# Altium schematic symbol library NSC Audio.SchLib: 691 symbols (part 9 of 18)
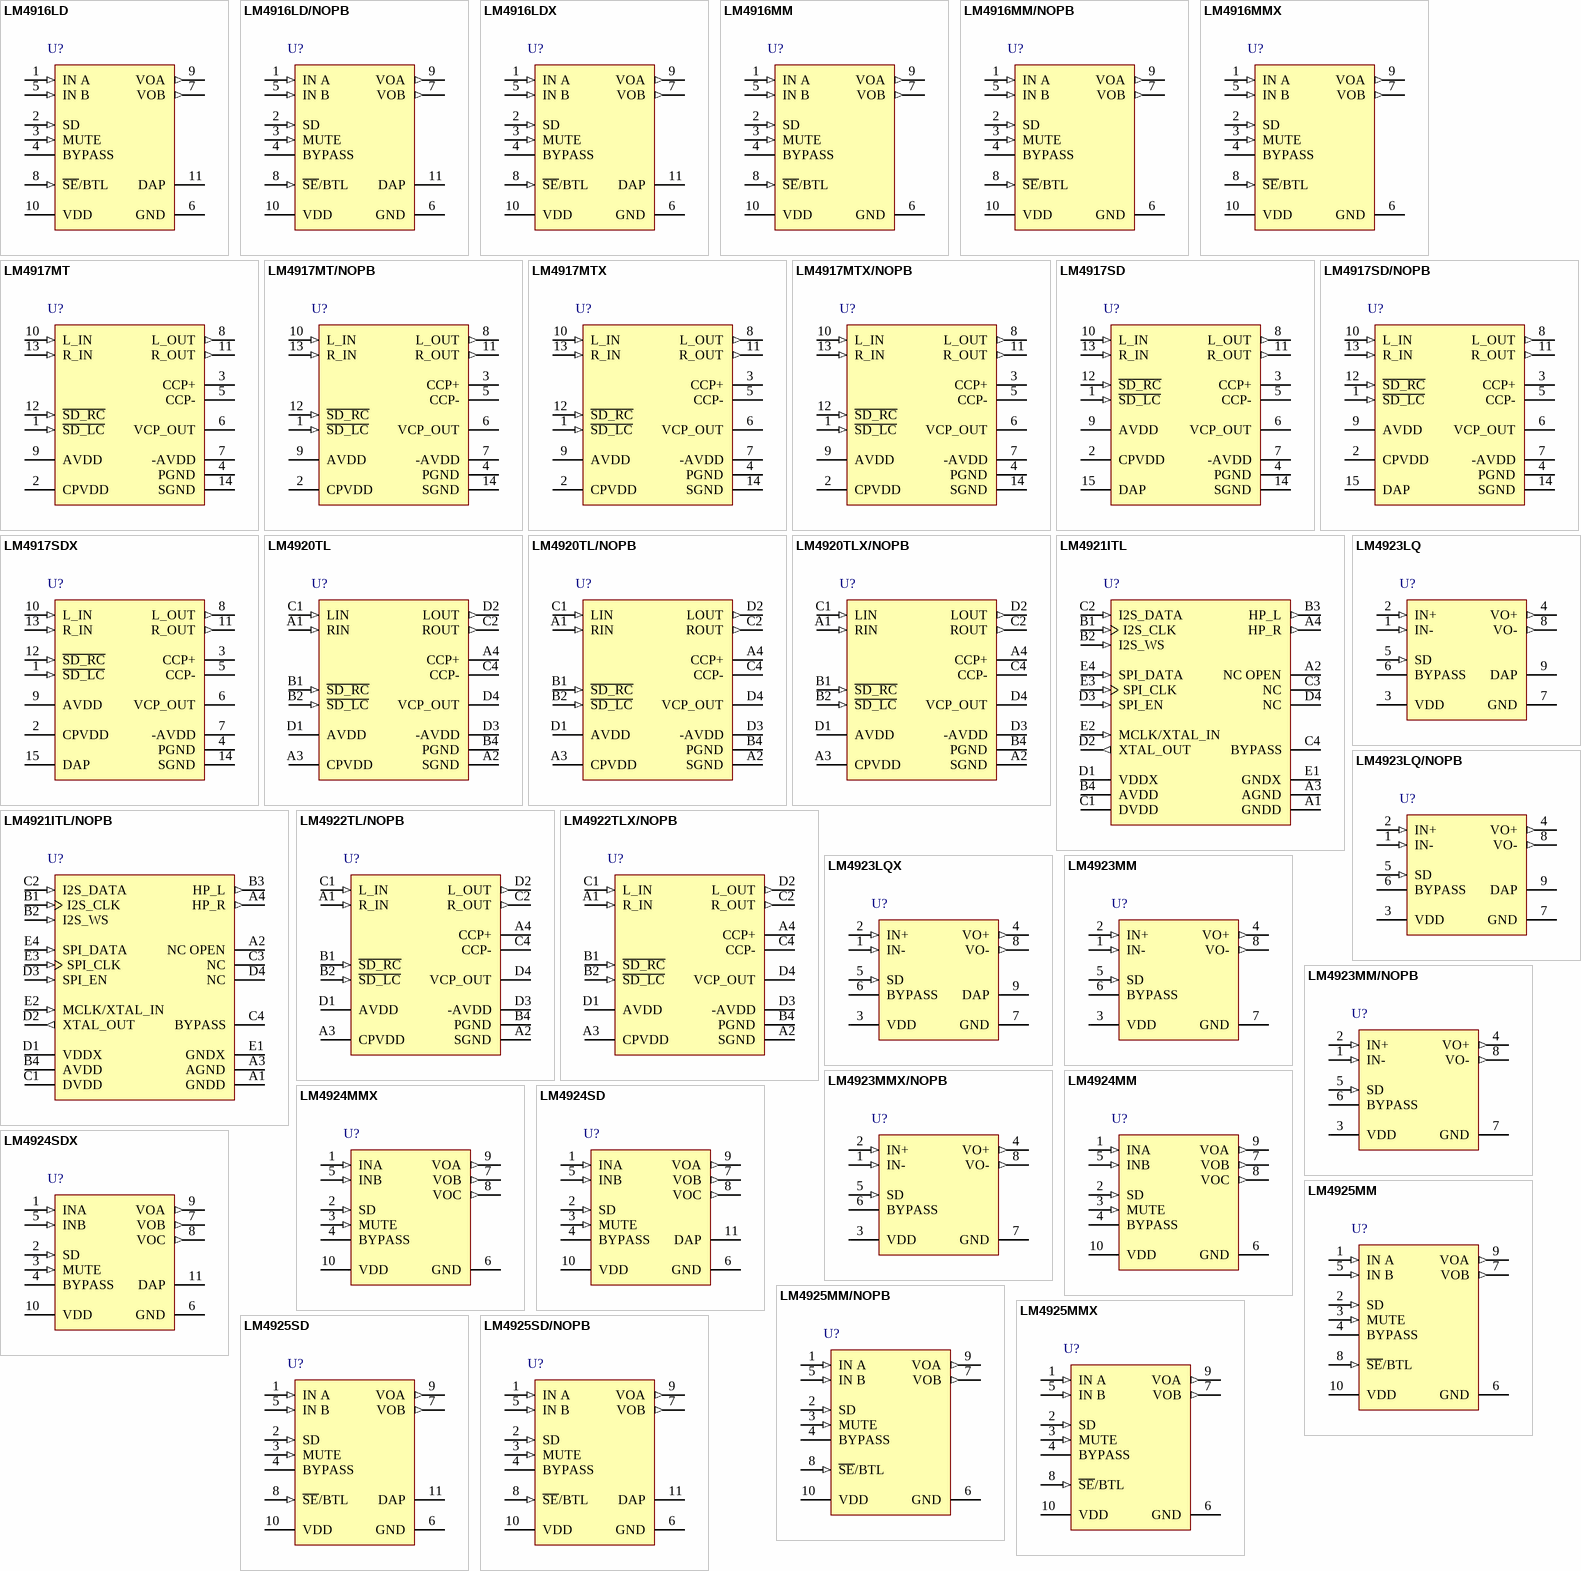
[diagram p35: symbols LM4916LD to LM4925SD/NOPB]

## LM4916LD
designator U?
1.5V, Mono 85mW BTL Output, 14mW Stereo Headphone Audio Amplifier, 11-pin LLP; PartNumber: LM4916LD; Manufacturer: National Semiconductor; PackageTopMarking: ZXYTT*L4916; PowerWise: N; CompType: Audio IC; Published: 4-Dec-2008; DatasheetVersion: Jul-2006; PackageVersion: revB, Jan-2003; PackageReference: LDA10A; Publisher: Altium Limited; PackageDescription: LLP, Plastic, Dual, 3 x 3 x 0.75mm Body, 10 Lead, 0.5mm Pitch; RoHS: N; PinCount: 10; ComponentLink1Description: LM4916 Datasheet; ComponentLink1URL: http://www.national.com/ds/LM/LM4916.pdf; ComponentLink2Description: LM4916 Web Page; ComponentLink2URL: http://www.national.com/pf/LM/LM4916.html; ComponentLink3Description: LDA10A Package Page; ComponentLink3URL: http://www.national.com/packaging/folders/lda10a.html
footprint LDA10A (PSON, 10-Leads, Body 3x3mm, Pitch 0.5mm, NSC Recommended)
pins: 1 IN A (in), 2 SD (in), 3 MUTE (in), 4 BYPASS, 5 IN B (in), 6 GND (power), 7 VOB (out), 8 ~{SE}/BTL (in), 9 VOA (out), 10 VDD (power), 11 DAP (power)

## LM4916LD/NOPB
designator U?
1.5V, Mono 85mW BTL Output, 14mW Stereo Headphone Audio Amplifier, 10-pin LLP, Pb-Free; PartNumber: LM4916LD/NOPB; Manufacturer: National Semiconductor; PackageTopMarking: ZXYTT*L4916; PowerWise: N; CompType: Audio IC; Published: 1-Mar-2010; DatasheetVersion: Jul-2006; PackageVersion: revB, Jan-2003; PackageReference: LDA10A; Publisher: Altium Limited; PackageDescription: LLP, Plastic, Dual, 3 x 3 x 0.75mm Body, 10 Lead, 0.5mm Pitch; Supplier 1: Digi-Key; Supplier Part Number 1: LM4916LDTR-ND; Supplier 2: Digi-Key; Supplier Part Number 2: LM4916LDCT-ND; Supplier 3: Digi-Key; Supplier Part Number 3: LM4916LDDKR-ND; RoHS: Y; PinCount: 10; ComponentLink1Description: LM4916 Datasheet; ComponentLink1URL: http://www.national.com/ds/LM/LM4916.pdf; ComponentLink2Description: LM4916 Web Page; ComponentLink2URL: http://www.national.com/pf/LM/LM4916.html; ComponentLink3Description: LDA10A Package Page; ComponentLink3URL: http://www.national.com/packaging/folders/lda10a.html
footprint LDA10A (PSON, 10-Leads, Body 3x3mm, Pitch 0.5mm, NSC Recommended)
pins: 1 IN A (in), 2 SD (in), 3 MUTE (in), 4 BYPASS, 5 IN B (in), 6 GND (power), 7 VOB (out), 8 ~{SE}/BTL (in), 9 VOA (out), 10 VDD (power), 11 DAP (power)

## LM4916LDX
designator U?
1.5V, Mono 85mW BTL Output, 14mW Stereo Headphone Audio Amplifier, 10-pin LLP; PartNumber: LM4916LDX; Manufacturer: National Semiconductor; PackageTopMarking: ZXYTT*L4916; PowerWise: N; CompType: Audio IC; Published: 1-Mar-2010; DatasheetVersion: Jul-2006; PackageVersion: revB, Jan-2003; PackageReference: LDA10A; Publisher: Altium Limited; PackageDescription: LLP, Plastic, Dual, 3 x 3 x 0.75mm Body, 10 Lead, 0.5mm Pitch; RoHS: N; PinCount: 10; ComponentLink1Description: LM4916 Datasheet; ComponentLink1URL: http://www.national.com/ds/LM/LM4916.pdf; ComponentLink2Description: LM4916 Web Page; ComponentLink2URL: http://www.national.com/pf/LM/LM4916.html; ComponentLink3Description: LDA10A Package Page; ComponentLink3URL: http://www.national.com/packaging/folders/lda10a.html
footprint LDA10A (PSON, 10-Leads, Body 3x3mm, Pitch 0.5mm, NSC Recommended)
pins: 1 IN A (in), 2 SD (in), 3 MUTE (in), 4 BYPASS, 5 IN B (in), 6 GND (power), 7 VOB (out), 8 ~{SE}/BTL (in), 9 VOA (out), 10 VDD (power), 11 DAP (power)

## LM4916MM
designator U?
1.5V, Mono 85mW BTL Output, 14mW Stereo Headphone Audio Amplifier, 10-pin MSOP; PartNumber: LM4916MM; Manufacturer: National Semiconductor; PackageTopMarking: ZXTT*GA9; PowerWise: N; CompType: Audio IC; Published: 4-Dec-2008; DatasheetVersion: Jul-2006; PackageVersion: revB, Jul-2003; PackageReference: MUB10A; Publisher: Altium Limited; PackageDescription: Mini-SO, Molded, .118 x .118 x .034in Body, 10 Lead, .0197in Pitch; RoHS: N; PinCount: 10; Code_JEDEC: MO-187-BA; ComponentLink1Description: LM4916 Datasheet; ComponentLink1URL: http://www.national.com/ds/LM/LM4916.pdf; ComponentLink2Description: LM4916 Web Page; ComponentLink2URL: http://www.national.com/pf/LM/LM4916.html; ComponentLink3Description: MUB10A Package Page; ComponentLink3URL: http://www.national.com/packaging/folders/mub10a.html
footprint MUB10A_N (TSSOP, 10-Leads, Body 3x3mm, Pitch 0.5mm, IPC Medium Density)
footprint MUB10A_L (TSSOP, 10-Leads, Body 3x3mm, Pitch 0.5mm, IPC High Density)
footprint MUB10A_M (TSSOP, 10-Leads, Body 3x3mm, Pitch 0.5mm, IPC Low Density)
pins: 1 IN A (in), 2 SD (in), 3 MUTE (in), 4 BYPASS, 5 IN B (in), 6 GND (power), 7 VOB (out), 8 ~{SE}/BTL (in), 9 VOA (out), 10 VDD (power)

## LM4916MM/NOPB
designator U?
1.5V, Mono 85mW BTL Output, 14mW Stereo Headphone Audio Amplifier, 10-pin Mini SOIC, Pb-Free; PartNumber: LM4916MM/NOPB; Manufacturer: National Semiconductor; PackageTopMarking: ZXTT*GA9; PowerWise: N; CompType: Audio IC; Published: 1-Mar-2010; DatasheetVersion: Jul-2006; PackageVersion: revB, Jul-2003; PackageReference: MUB10A; Publisher: Altium Limited; PackageDescription: Mini-SO, Molded, .118 x .118 x .034in Body, 10 Lead, .0197in Pitch; Supplier 1: Digi-Key; Supplier Part Number 1: LM4916MMTR-ND; Supplier 2: Digi-Key; Supplier Part Number 2: LM4916MMCT-ND; Supplier 3: Digi-Key; Supplier Part Number 3: LM4916MMDKR-ND; RoHS: Y; PinCount: 10; Code_JEDEC: MO-187-BA; ComponentLink1Description: LM4916 Datasheet; ComponentLink1URL: http://www.national.com/ds/LM/LM4916.pdf; ComponentLink2Description: LM4916 Web Page; ComponentLink2URL: http://www.national.com/pf/LM/LM4916.html; ComponentLink3Description: MUB10A Package Page; ComponentLink3URL: http://www.national.com/packaging/folders/mub10a.html
footprint MUB10A_N (TSSOP, 10-Leads, Body 3x3mm, Pitch 0.5mm, IPC Medium Density)
footprint MUB10A_L (TSSOP, 10-Leads, Body 3x3mm, Pitch 0.5mm, IPC High Density)
footprint MUB10A_M (TSSOP, 10-Leads, Body 3x3mm, Pitch 0.5mm, IPC Low Density)
pins: 1 IN A (in), 2 SD (in), 3 MUTE (in), 4 BYPASS, 5 IN B (in), 6 GND (power), 7 VOB (out), 8 ~{SE}/BTL (in), 9 VOA (out), 10 VDD (power)

## LM4916MMX
designator U?
1.5V, Mono 85mW BTL Output, 14mW Stereo Headphone Audio Amplifier, 10-pin Mini SOIC; PartNumber: LM4916MMX; Manufacturer: National Semiconductor; PackageTopMarking: ZXTT*GA9; PowerWise: N; CompType: Audio IC; Published: 1-Mar-2010; DatasheetVersion: Jul-2006; PackageVersion: revB, Jul-2003; PackageReference: MUB10A; Publisher: Altium Limited; PackageDescription: Mini-SO, Molded, .118 x .118 x .034in Body, 10 Lead, .0197in Pitch; RoHS: N; PinCount: 10; Code_JEDEC: MO-187-BA; ComponentLink1Description: LM4916 Datasheet; ComponentLink1URL: http://www.national.com/ds/LM/LM4916.pdf; ComponentLink2Description: LM4916 Web Page; ComponentLink2URL: http://www.national.com/pf/LM/LM4916.html; ComponentLink3Description: MUB10A Package Page; ComponentLink3URL: http://www.national.com/packaging/folders/mub10a.html
footprint MUB10A_N (TSSOP, 10-Leads, Body 3x3mm, Pitch 0.5mm, IPC Medium Density)
footprint MUB10A_L (TSSOP, 10-Leads, Body 3x3mm, Pitch 0.5mm, IPC High Density)
footprint MUB10A_M (TSSOP, 10-Leads, Body 3x3mm, Pitch 0.5mm, IPC Low Density)
pins: 1 IN A (in), 2 SD (in), 3 MUTE (in), 4 BYPASS, 5 IN B (in), 6 GND (power), 7 VOB (out), 8 ~{SE}/BTL (in), 9 VOA (out), 10 VDD (power)

## LM4917MT
designator U?
Ground-Referenced, 95mW Stereo Headphone Amplifier, 14-pin TSSOP; PartNumber: LM4917MT; Manufacturer: National Semiconductor; PackageTopMarking: NSZXYTT*L4917*MT; PowerWise: N; CompType: Audio IC; Published: 4-Dec-2008; DatasheetVersion: Nov-2004; PackageVersion: revD, Jun-2003; PackageReference: MTC14; Publisher: Altium Limited; PackageDescription: Molded TSSOP, JEDEC, 5 x 4.4 x 0.9mm Body, 14 Lead, 0.65mm Pitch; RoHS: N; PinCount: 14; Code_JEDEC: MO-153-AB-1; ComponentLink1Description: LM4917 Datasheet; ComponentLink1URL: http://www.national.com/ds/LM/LM4917.pdf; ComponentLink2Description: LM4917 Web Page; ComponentLink2URL: http://www.national.com/pf/LM/LM4917.html; ComponentLink3Description: MTC14 Package Page; ComponentLink3URL: http://www.national.com/packaging/folders/mtc14.html
footprint MTC14_N (TSOP, 14-Leads, Body 5x4.4mm, Pitch 0.65mm, IPC Medium Density)
footprint MTC14_L (TSOP, 14-Leads, Body 5x4.4mm, Pitch 0.65mm, IPC High Density)
footprint MTC14_M (TSOP, 14-Leads, Body 5x4.4mm, Pitch 0.65mm, IPC Low Density)
pins: 1 ~{SD_LC} (in), 2 CPVDD (power), 3 CCP+, 4 PGND (power), 5 CCP-, 6 VCP_OUT (power), 7 -AVDD (power), 8 L_OUT (out), 9 AVDD (power), 10 L_IN (in), 11 R_OUT (out), 12 ~{SD_RC} (in), 13 R_IN (in), 14 SGND (power)

## LM4917MT/NOPB
designator U?
Ground-Referenced, 95mW Stereo Headphone Amplifier, 14-pin TSSOP, Pb-Free; PartNumber: LM4917MT/NOPB; Manufacturer: National Semiconductor; PackageTopMarking: NSZXYTT*L4917*MT; PowerWise: N; CompType: Audio IC; Published: 1-Mar-2010; DatasheetVersion: Nov-2004; PackageVersion: revD, Jun-2003; PackageReference: MTC14; Publisher: Altium Limited; PackageDescription: Molded TSSOP, JEDEC, 5 x 4.4 x 0.9mm Body, 14 Lead, 0.65mm Pitch; Supplier 1: Digi-Key; Supplier Part Number 1: LM4917MT-ND; RoHS: Y; PinCount: 14; Code_JEDEC: MO-153-AB-1; ComponentLink1Description: LM4917 Datasheet; ComponentLink1URL: http://www.national.com/ds/LM/LM4917.pdf; ComponentLink2Description: LM4917 Web Page; ComponentLink2URL: http://www.national.com/pf/LM/LM4917.html; ComponentLink3Description: MTC14 Package Page; ComponentLink3URL: http://www.national.com/packaging/folders/mtc14.html
footprint MTC14_N (TSOP, 14-Leads, Body 5x4.4mm, Pitch 0.65mm, IPC Medium Density)
footprint MTC14_L (TSOP, 14-Leads, Body 5x4.4mm, Pitch 0.65mm, IPC High Density)
footprint MTC14_M (TSOP, 14-Leads, Body 5x4.4mm, Pitch 0.65mm, IPC Low Density)
pins: 1 ~{SD_LC} (in), 2 CPVDD (power), 3 CCP+, 4 PGND (power), 5 CCP-, 6 VCP_OUT (power), 7 -AVDD (power), 8 L_OUT (out), 9 AVDD (power), 10 L_IN (in), 11 R_OUT (out), 12 ~{SD_RC} (in), 13 R_IN (in), 14 SGND (power)

## LM4917MTX
designator U?
Ground-Referenced, 95mW Stereo Headphone Amplifier, 14-pin TSSOP; PartNumber: LM4917MTX; Manufacturer: National Semiconductor; PackageTopMarking: NSZXYTT*L4917*MT; PowerWise: N; CompType: Audio IC; Published: 1-Mar-2010; DatasheetVersion: Nov-2004; PackageVersion: revD, Jun-2003; PackageReference: MTC14; Publisher: Altium Limited; PackageDescription: Molded TSSOP, JEDEC, 5 x 4.4 x 0.9mm Body, 14 Lead, 0.65mm Pitch; RoHS: N; PinCount: 14; Code_JEDEC: MO-153-AB-1; ComponentLink1Description: LM4917 Datasheet; ComponentLink1URL: http://www.national.com/ds/LM/LM4917.pdf; ComponentLink2Description: LM4917 Web Page; ComponentLink2URL: http://www.national.com/pf/LM/LM4917.html; ComponentLink3Description: MTC14 Package Page; ComponentLink3URL: http://www.national.com/packaging/folders/mtc14.html
footprint MTC14_N (TSOP, 14-Leads, Body 5x4.4mm, Pitch 0.65mm, IPC Medium Density)
footprint MTC14_L (TSOP, 14-Leads, Body 5x4.4mm, Pitch 0.65mm, IPC High Density)
footprint MTC14_M (TSOP, 14-Leads, Body 5x4.4mm, Pitch 0.65mm, IPC Low Density)
pins: 1 ~{SD_LC} (in), 2 CPVDD (power), 3 CCP+, 4 PGND (power), 5 CCP-, 6 VCP_OUT (power), 7 -AVDD (power), 8 L_OUT (out), 9 AVDD (power), 10 L_IN (in), 11 R_OUT (out), 12 ~{SD_RC} (in), 13 R_IN (in), 14 SGND (power)

## LM4917MTX/NOPB
designator U?
Ground-Referenced, 95mW Stereo Headphone Amplifier, 14-pin TSSOP, Pb-Free; PartNumber: LM4917MTX/NOPB; Manufacturer: National Semiconductor; PackageTopMarking: NSZXYTT*L4917*MT; PowerWise: N; CompType: Audio IC; Published: 1-Mar-2010; DatasheetVersion: Nov-2004; PackageVersion: revD, Jun-2003; PackageReference: MTC14; Publisher: Altium Limited; PackageDescription: Molded TSSOP, JEDEC, 5 x 4.4 x 0.9mm Body, 14 Lead, 0.65mm Pitch; Supplier 1: Digi-Key; Supplier Part Number 1: LM4917MTX-ND; RoHS: Y; PinCount: 14; Code_JEDEC: MO-153-AB-1; ComponentLink1Description: LM4917 Datasheet; ComponentLink1URL: http://www.national.com/ds/LM/LM4917.pdf; ComponentLink2Description: LM4917 Web Page; ComponentLink2URL: http://www.national.com/pf/LM/LM4917.html; ComponentLink3Description: MTC14 Package Page; ComponentLink3URL: http://www.national.com/packaging/folders/mtc14.html
footprint MTC14_N (TSOP, 14-Leads, Body 5x4.4mm, Pitch 0.65mm, IPC Medium Density)
footprint MTC14_L (TSOP, 14-Leads, Body 5x4.4mm, Pitch 0.65mm, IPC High Density)
footprint MTC14_M (TSOP, 14-Leads, Body 5x4.4mm, Pitch 0.65mm, IPC Low Density)
pins: 1 ~{SD_LC} (in), 2 CPVDD (power), 3 CCP+, 4 PGND (power), 5 CCP-, 6 VCP_OUT (power), 7 -AVDD (power), 8 L_OUT (out), 9 AVDD (power), 10 L_IN (in), 11 R_OUT (out), 12 ~{SD_RC} (in), 13 R_IN (in), 14 SGND (power)

## LM4917SD
designator U?
Ground-Referenced, 95mW Stereo Headphone Amplifier, 15-pin LLP; PartNumber: LM4917SD; Manufacturer: National Semiconductor; PowerWise: N; CompType: Audio IC; Published: 4-Dec-2008; DatasheetVersion: Nov-2004; PackageVersion: revA, Jun-2003; PackageReference: SDA14A; Publisher: Altium Limited; PackageDescription: LLP, Plastic, Dual, 4 x 3 x 0.8mm Body, 14 Lead, 0.5mm Pitch, No Pullback; RoHS: N; PinCount: 14; ComponentLink1Description: LM4917 Datasheet; ComponentLink1URL: http://www.national.com/ds/LM/LM4917.pdf; ComponentLink2Description: LM4917 Web Page; ComponentLink2URL: http://www.national.com/pf/LM/LM4917.html; ComponentLink3Description: SDA14A Package Page; ComponentLink3URL: http://www.national.com/packaging/folders/sda14a.html
footprint SDA14A (SON, 14-Leads, Body 4x3mm, Pitch 0.5mm, NSC Recommended)
pins: 1 ~{SD_LC} (in), 2 CPVDD (power), 3 CCP+, 4 PGND (power), 5 CCP-, 6 VCP_OUT (power), 7 -AVDD (power), 8 L_OUT (out), 9 AVDD (power), 10 L_IN (in), 11 R_OUT (out), 12 ~{SD_RC} (in), 13 R_IN (in), 14 SGND (power), 15 DAP (power)

## LM4917SD/NOPB
designator U?
Ground-Referenced, 95mW Stereo Headphone Amplifier, 14-pin LLP, Pb-Free; PartNumber: LM4917SD/NOPB; Manufacturer: National Semiconductor; PowerWise: N; CompType: Audio IC; Published: 1-Mar-2010; DatasheetVersion: Nov-2004; PackageVersion: revA, Jun-2003; PackageReference: SDA14A; Publisher: Altium Limited; PackageDescription: LLP, Plastic, Dual, 4 x 3 x 0.8mm Body, 14 Lead, 0.5mm Pitch, No Pullback; Supplier 1: Digi-Key; Supplier Part Number 1: LM4917SDTR-ND; Supplier 2: Digi-Key; Supplier Part Number 2: LM4917SDCT-ND; Supplier 3: Digi-Key; Supplier Part Number 3: LM4917SDDKR-ND; RoHS: Y; PinCount: 14; ComponentLink1Description: LM4917 Datasheet; ComponentLink1URL: http://www.national.com/ds/LM/LM4917.pdf; ComponentLink2Description: LM4917 Web Page; ComponentLink2URL: http://www.national.com/pf/LM/LM4917.html; ComponentLink3Description: SDA14A Package Page; ComponentLink3URL: http://www.national.com/packaging/folders/sda14a.html
footprint SDA14A (SON, 14-Leads, Body 4x3mm, Pitch 0.5mm, NSC Recommended)
pins: 1 ~{SD_LC} (in), 2 CPVDD (power), 3 CCP+, 4 PGND (power), 5 CCP-, 6 VCP_OUT (power), 7 -AVDD (power), 8 L_OUT (out), 9 AVDD (power), 10 L_IN (in), 11 R_OUT (out), 12 ~{SD_RC} (in), 13 R_IN (in), 14 SGND (power), 15 DAP (power)

## LM4917SDX
designator U?
Ground-Referenced, 95mW Stereo Headphone Amplifier, 14-pin LLP; PartNumber: LM4917SDX; Manufacturer: National Semiconductor; PowerWise: N; CompType: Audio IC; Published: 1-Mar-2010; DatasheetVersion: Nov-2004; PackageVersion: revA, Jun-2003; PackageReference: SDA14A; Publisher: Altium Limited; PackageDescription: LLP, Plastic, Dual, 4 x 3 x 0.8mm Body, 14 Lead, 0.5mm Pitch, No Pullback; RoHS: N; PinCount: 14; ComponentLink1Description: LM4917 Datasheet; ComponentLink1URL: http://www.national.com/ds/LM/LM4917.pdf; ComponentLink2Description: LM4917 Web Page; ComponentLink2URL: http://www.national.com/pf/LM/LM4917.html; ComponentLink3Description: SDA14A Package Page; ComponentLink3URL: http://www.national.com/packaging/folders/sda14a.html
footprint SDA14A (SON, 14-Leads, Body 4x3mm, Pitch 0.5mm, NSC Recommended)
pins: 1 ~{SD_LC} (in), 2 CPVDD (power), 3 CCP+, 4 PGND (power), 5 CCP-, 6 VCP_OUT (power), 7 -AVDD (power), 8 L_OUT (out), 9 AVDD (power), 10 L_IN (in), 11 R_OUT (out), 12 ~{SD_RC} (in), 13 R_IN (in), 14 SGND (power), 15 DAP (power)

## LM4920TL
designator U?
Ground-Referenced, Ultra Low Noise, Fixed Gain, 80mW Stereo Headphone Amplifier, 14-pin Micro SMD; PartNumber: LM4920TL; Manufacturer: National Semiconductor; PackageTopMarking: XYTT*I GH4; PowerWise: N; CompType: Audio IC; Published: 4-Dec-2008; DatasheetVersion: Oct-2006; PackageVersion: revB, Sep-2004; PackageReference: TLE1411A; Publisher: Altium Limited; PackageDescription: Thin Micro SMD, Depopulated, 14 Bump (Large), 0.5mm Pitch; RoHS: Y; PinCount: 14; Code_JEDEC: MO-211-DF; ComponentLink1Description: LM4920 Datasheet; ComponentLink1URL: http://www.national.com/ds/LM/LM4920.pdf; ComponentLink2Description: LM4920 Web Page; ComponentLink2URL: http://www.national.com/pf/LM/LM4920.html; ComponentLink3Description: TLE1411A Package Page; ComponentLink3URL: http://www.national.com/packaging/folders/tle1411a.html
footprint TLE1411A (Micro SMD, 14-Leads, Body 1.97x1.97mm, Pitch 0.5mm, NSC Recommended)
pins: A1 RIN (in), A2 SGND (power), A3 CPVDD (power), A4 CCP+, B1 ~{SD_RC} (in), B2 ~{SD_LC} (in), B4 PGND (power), C1 LIN (in), C2 ROUT (out), C4 CCP-, D1 AVDD (power), D2 LOUT (out), D3 -AVDD (power), D4 VCP_OUT (power)

## LM4920TL/NOPB
designator U?
Ground-Referenced, Ultra Low Noise, Fixed Gain, 80mW Stereo Headphone Amplifier, 14-pin Micro SMD, Pb-Free; PartNumber: LM4920TL/NOPB; Manufacturer: National Semiconductor; PackageTopMarking: XYTT*I GH4; PowerWise: N; CompType: Audio IC; Published: 1-Mar-2010; DatasheetVersion: Oct-2006; PackageVersion: revB, Sep-2004; PackageReference: TLE1411A; Publisher: Altium Limited; PackageDescription: Thin Micro SMD, Depopulated, 14 Bump (Large), 0.5mm Pitch; Supplier 1: Digi-Key; Supplier Part Number 1: LM4920TLTR-ND; Supplier 2: Digi-Key; Supplier Part Number 2: LM4920TLCT-ND; Supplier 3: Digi-Key; Supplier Part Number 3: LM4920TLDKR-ND; RoHS: Y; PinCount: 14; Code_JEDEC: MO-211-DF; ComponentLink1Description: LM4920 Datasheet; ComponentLink1URL: http://www.national.com/ds/LM/LM4920.pdf; ComponentLink2Description: LM4920 Web Page; ComponentLink2URL: http://www.national.com/pf/LM/LM4920.html; ComponentLink3Description: TLE1411A Package Page; ComponentLink3URL: http://www.national.com/packaging/folders/tle1411a.html
footprint TLE1411A (Micro SMD, 14-Leads, Body 1.97x1.97mm, Pitch 0.5mm, NSC Recommended)
pins: A1 RIN (in), A2 SGND (power), A3 CPVDD (power), A4 CCP+, B1 ~{SD_RC} (in), B2 ~{SD_LC} (in), B4 PGND (power), C1 LIN (in), C2 ROUT (out), C4 CCP-, D1 AVDD (power), D2 LOUT (out), D3 -AVDD (power), D4 VCP_OUT (power)

## LM4920TLX/NOPB
designator U?
Ground-Referenced, Ultra Low Noise, Fixed Gain, 80mW Stereo Headphone Amplifier, 14-pin Micro SMD, Pb-Free; PartNumber: LM4920TLX/NOPB; Manufacturer: National Semiconductor; PackageTopMarking: XYTT*I GH4; PowerWise: N; CompType: Audio IC; Published: 1-Mar-2010; DatasheetVersion: Oct-2006; PackageVersion: revB, Sep-2004; PackageReference: TLE1411A; Publisher: Altium Limited; PackageDescription: Thin Micro SMD, Depopulated, 14 Bump (Large), 0.5mm Pitch; Supplier 1: Digi-Key; Supplier Part Number 1: LM4920TLX-ND; RoHS: Y; PinCount: 14; Code_JEDEC: MO-211-DF; ComponentLink1Description: LM4920 Datasheet; ComponentLink1URL: http://www.national.com/ds/LM/LM4920.pdf; ComponentLink2Description: LM4920 Web Page; ComponentLink2URL: http://www.national.com/pf/LM/LM4920.html; ComponentLink3Description: TLE1411A Package Page; ComponentLink3URL: http://www.national.com/packaging/folders/tle1411a.html
footprint TLE1411A (Micro SMD, 14-Leads, Body 1.97x1.97mm, Pitch 0.5mm, NSC Recommended)
pins: A1 RIN (in), A2 SGND (power), A3 CPVDD (power), A4 CCP+, B1 ~{SD_RC} (in), B2 ~{SD_LC} (in), B4 PGND (power), C1 LIN (in), C2 ROUT (out), C4 CCP-, D1 AVDD (power), D2 LOUT (out), D3 -AVDD (power), D4 VCP_OUT (power)

## LM4921ITL
designator U?
Low Voltage IS 16-Bit Stereo DAC with Stereo Headphone Power Amplifiers and Volume Control, 20-pin Micro SMD; PartNumber: LM4921ITL; Manufacturer: National Semiconductor; PackageTopMarking: XYVG*I B9; PowerWise: N; CompType: Audio IC; Published: 4-Dec-2008; DatasheetVersion: Nov-2004; PackageVersion: revC, Jan-2004; PackageReference: TLA20JKA; Publisher: Altium Limited; PackageDescription: Thin Micro SMD, 20 Bump (Large), 0.5mm Pitch; Supplier 1: Farnell; Supplier Part Number 1: 8181195; RoHS: Y; PinCount: 20; Code_JEDEC: MO-211-DG; ComponentLink1Description: LM4921 Datasheet; ComponentLink1URL: http://www.national.com/ds/LM/LM4921.pdf; ComponentLink2Description: LM4921 Web Page; ComponentLink2URL: http://www.national.com/pf/LM/LM4921.html; ComponentLink3Description: TLA20JKA Package Page; ComponentLink3URL: http://www.national.com/packaging/folders/tla20jka.html
footprint TLA20JKA (Micro SMD, 20-Leads, Body 2.72x2.2mm, Pitch 0.5mm, NSC Recommended)
pins: A1 GNDD (power), A2 NC OPEN "Must let float", A3 AGND (power), A4 HP_R (out), B1 I2S_CLK (in), B2 I2S_WS (in), B3 HP_L (out), B4 AVDD (power), C1 DVDD (power), C2 I2S_DATA (in), C3 NC, C4 BYPASS, D1 VDDX (power), D2 XTAL_OUT (out), D3 SPI_EN (in), D4 NC, E1 GNDX (power), E2 MCLK/XTAL_IN (in), E3 SPI_CLK (in), E4 SPI_DATA (in)

## LM4921ITL/NOPB
designator U?
Low Voltage IS 16-Bit Stereo DAC with Stereo Headphone Power Amplifiers and Volume Control, 20-pin Micro SMD, Pb-Free; PartNumber: LM4921ITL/NOPB; Manufacturer: National Semiconductor; PackageTopMarking: XYVG*I B9; PowerWise: N; CompType: Audio IC; Published: 1-Mar-2010; DatasheetVersion: Nov-2004; PackageVersion: revC, Jan-2004; PackageReference: TLA20JKA; Publisher: Altium Limited; PackageDescription: Thin Micro SMD, 20 Bump (Large), 0.5mm Pitch; Supplier 1: Digi-Key; Supplier Part Number 1: LM4921ITLTR-ND; Supplier 2: Digi-Key; Supplier Part Number 2: LM4921ITLCT-ND; Supplier 3: Digi-Key; Supplier Part Number 3: LM4921ITLDKR-ND; RoHS: Y; PinCount: 20; Code_JEDEC: MO-211-DG; ComponentLink1Description: LM4921 Datasheet; ComponentLink1URL: http://www.national.com/ds/LM/LM4921.pdf; ComponentLink2Description: LM4921 Web Page; ComponentLink2URL: http://www.national.com/pf/LM/LM4921.html; ComponentLink3Description: TLA20JKA Package Page; ComponentLink3URL: http://www.national.com/packaging/folders/tla20jka.html
footprint TLA20JKA (Micro SMD, 20-Leads, Body 2.72x2.2mm, Pitch 0.5mm, NSC Recommended)
pins: A1 GNDD (power), A2 NC OPEN "Must let float", A3 AGND (power), A4 HP_R (out), B1 I2S_CLK (in), B2 I2S_WS (in), B3 HP_L (out), B4 AVDD (power), C1 DVDD (power), C2 I2S_DATA (in), C3 NC, C4 BYPASS, D1 VDDX (power), D2 XTAL_OUT (out), D3 SPI_EN (in), D4 NC, E1 GNDX (power), E2 MCLK/XTAL_IN (in), E3 SPI_CLK (in), E4 SPI_DATA (in)

## LM4922TL/NOPB
designator U?
Ground-Referenced, Ultra Low Noise, Fixed Gain, 80mW Stereo Headphone Amplifier, 14 pin MICRO SMD; PartNumber: LM4922TL/NOPB; Manufacturer: National Semiconductor; PackageTopMarking: XYTT*I GG1; PowerWise: N; CompType: Audio IC; Published: 16-Nov-2010; DatasheetVersion: Oct-2006; PackageVersion: revB, Sep-2004; PackageReference: TLE1411A; Publisher: Altium Limited; PackageDescription: Thin Micro SMD, Depopulated, 14 Bump (Large), 0.5mm Pitch; RoHS: Y; PinCount: 14; Code_JEDEC: MO-211-DF; ComponentLink1Description: LM4922 Datasheet; ComponentLink1URL: http://www.national.com/ds/LM/LM4922.pdf; ComponentLink2Description: LM4922 Web Page; ComponentLink2URL: http://www.national.com/pf/LM/LM4922.html; ComponentLink3Description: TLE1411A Package Page; ComponentLink3URL: http://www.national.com/packaging/folders/tle1411a.html
footprint TLE1411A (Micro SMD, 14-Leads, Body 1.97x1.97mm, Pitch 0.5mm, NSC Recommended)
pins: A1 R_IN (in), A2 SGND (power), A3 CPVDD (power), A4 CCP+, B1 ~{SD_RC} (in), B2 ~{SD_LC} (in), B4 PGND (power), C1 L_IN (in), C2 R_OUT (out), C4 CCP-, D1 AVDD (power), D2 L_OUT (out), D3 -AVDD (power), D4 VCP_OUT (power)

## LM4922TLX/NOPB
designator U?
Ground-Referenced, Ultra Low Noise, Fixed Gain, 80mW Stereo Headphone Amplifier, 14 pin MICRO SMD; PartNumber: LM4922TLX/NOPB; Manufacturer: National Semiconductor; PackageTopMarking: XYTT*I GG1; PowerWise: N; CompType: Audio IC; Published: 16-Nov-2010; DatasheetVersion: Oct-2006; PackageVersion: revB, Sep-2004; PackageReference: TLE1411A; Publisher: Altium Limited; PackageDescription: Thin Micro SMD, Depopulated, 14 Bump (Large), 0.5mm Pitch; RoHS: Y; PinCount: 14; Code_JEDEC: MO-211-DF; ComponentLink1Description: LM4922 Datasheet; ComponentLink1URL: http://www.national.com/ds/LM/LM4922.pdf; ComponentLink2Description: LM4922 Web Page; ComponentLink2URL: http://www.national.com/pf/LM/LM4922.html; ComponentLink3Description: TLE1411A Package Page; ComponentLink3URL: http://www.national.com/packaging/folders/tle1411a.html
footprint TLE1411A (Micro SMD, 14-Leads, Body 1.97x1.97mm, Pitch 0.5mm, NSC Recommended)
pins: A1 R_IN (in), A2 SGND (power), A3 CPVDD (power), A4 CCP+, B1 ~{SD_RC} (in), B2 ~{SD_LC} (in), B4 PGND (power), C1 L_IN (in), C2 R_OUT (out), C4 CCP-, D1 AVDD (power), D2 L_OUT (out), D3 -AVDD (power), D4 VCP_OUT (power)

## LM4923LQ
designator U?
1.1W Fully Differential Audio Power Amplifier With Shutdown Select, 9-pin LLP; PartNumber: LM4923LQ; Manufacturer: National Semiconductor; PackageTopMarking: XTT*GB2; PowerWise: N; CompType: Audio IC; Published: 4-Dec-2008; DatasheetVersion: Feb-2009; PackageVersion: revB, Nov-2002; PackageReference: LQB08A; Publisher: Altium Limited; PackageDescription: LLP, Plastic, Quad, 2 x 2 x 0.75mm Body, 8 Lead, 0.65mm Pitch; Supplier 1: Farnell; Supplier Part Number 1: 1798329; RoHS: N; PinCount: 8; ComponentLink1Description: LM4923 Datasheet; ComponentLink1URL: http://www.national.com/ds/LM/LM4923.pdf; ComponentLink2Description: LM4923 Web Page; ComponentLink2URL: http://www.national.com/pf/LM/LM4923.html; ComponentLink3Description: LQB08A Package Page; ComponentLink3URL: http://www.national.com/packaging/folders/lqb08a.html
footprint LQB08A (PQFN, 8-Leads, Body 2x2mm, Pitch 0.65mm, NSC Recommended)
pins: 1 IN- (in), 2 IN+ (in), 3 VDD (power), 4 VO+ (out), 5 SD (in), 6 BYPASS, 7 GND (power), 8 VO- (out), 9 DAP (power)

## LM4923LQ/NOPB
designator U?
1.1W Fully Differential Audio Power Amplifier With Shutdown Select, 8-pin LLP, Pb-Free; PartNumber: LM4923LQ/NOPB; Manufacturer: National Semiconductor; PackageTopMarking: XTT*GB2; PowerWise: N; CompType: Audio IC; Published: 1-Mar-2010; DatasheetVersion: Feb-2009; PackageVersion: revB, Nov-2002; PackageReference: LQB08A; Publisher: Altium Limited; PackageDescription: LLP, Plastic, Quad, 2 x 2 x 0.75mm Body, 8 Lead, 0.65mm Pitch; Supplier 1: Digi-Key; Supplier Part Number 1: LM4923LQTR-ND; Supplier 2: Digi-Key; Supplier Part Number 2: LM4923LQCT-ND; Supplier 3: Digi-Key; Supplier Part Number 3: LM4923LQDKR-ND; RoHS: Y; PinCount: 8; ComponentLink1Description: LM4923 Datasheet; ComponentLink1URL: http://www.national.com/ds/LM/LM4923.pdf; ComponentLink2Description: LM4923 Web Page; ComponentLink2URL: http://www.national.com/pf/LM/LM4923.html; ComponentLink3Description: LQB08A Package Page; ComponentLink3URL: http://www.national.com/packaging/folders/lqb08a.html
footprint LQB08A (PQFN, 8-Leads, Body 2x2mm, Pitch 0.65mm, NSC Recommended)
pins: 1 IN- (in), 2 IN+ (in), 3 VDD (power), 4 VO+ (out), 5 SD (in), 6 BYPASS, 7 GND (power), 8 VO- (out), 9 DAP (power)

## LM4923LQX
designator U?
1.1W Fully Differential Audio Power Amplifier With Shutdown Select, 8-pin LLP; PartNumber: LM4923LQX; Manufacturer: National Semiconductor; PackageTopMarking: XTT*GB2; PowerWise: N; CompType: Audio IC; Published: 1-Mar-2010; DatasheetVersion: Feb-2009; PackageVersion: revB, Nov-2002; PackageReference: LQB08A; Publisher: Altium Limited; PackageDescription: LLP, Plastic, Quad, 2 x 2 x 0.75mm Body, 8 Lead, 0.65mm Pitch; RoHS: N; PinCount: 8; ComponentLink1Description: LM4923 Datasheet; ComponentLink1URL: http://www.national.com/ds/LM/LM4923.pdf; ComponentLink2Description: LM4923 Web Page; ComponentLink2URL: http://www.national.com/pf/LM/LM4923.html; ComponentLink3Description: LQB08A Package Page; ComponentLink3URL: http://www.national.com/packaging/folders/lqb08a.html
footprint LQB08A (PQFN, 8-Leads, Body 2x2mm, Pitch 0.65mm, NSC Recommended)
pins: 1 IN- (in), 2 IN+ (in), 3 VDD (power), 4 VO+ (out), 5 SD (in), 6 BYPASS, 7 GND (power), 8 VO- (out), 9 DAP (power)

## LM4923MM
designator U?
1.1W Fully Differential Audio Power Amplifier With Shutdown Select, 8-pin Mini SOIC; PartNumber: LM4923MM; Manufacturer: National Semiconductor; PackageTopMarking: ZXTT*GC8; PowerWise: N; CompType: Audio IC; Published: 4-Dec-2008; DatasheetVersion: Feb-2009; PackageVersion: revF, Apr-2008; PackageReference: MUA08A; Publisher: Altium Limited; PackageDescription: MINI SOIC, .118 x .118 x .034in, 8 Lead, .0256in Pitch; RoHS: Y; PinCount: 8; Code_JEDEC: MO-187-AA; ComponentLink1Description: LM4923 Datasheet; ComponentLink1URL: http://www.national.com/ds/LM/LM4923.pdf; ComponentLink2Description: LM4923 Web Page; ComponentLink2URL: http://www.national.com/pf/LM/LM4923.html; ComponentLink3Description: MUA08A Package Page; ComponentLink3URL: http://www.national.com/packaging/folders/mua08a.html
footprint MUA08A_N (TSOP, 8-Leads, Body 3x3mm, Pitch 0.65mm, IPC Medium Density)
footprint MUA08A_L (TSOP, 8-Leads, Body 3x3mm, Pitch 0.65mm, IPC High Density)
footprint MUA08A_M (TSOP, 8-Leads, Body 3x3mm, Pitch 0.65mm, IPC Low Density)
pins: 1 IN- (in), 2 IN+ (in), 3 VDD (power), 4 VO+ (out), 5 SD (in), 6 BYPASS, 7 GND (power), 8 VO- (out)

## LM4923MM/NOPB
designator U?
1.1W Fully Differential Audio Power Amplifier With Shutdown Select, 8-pin Mini SOIC, Pb-Free; PartNumber: LM4923MM/NOPB; Manufacturer: National Semiconductor; PackageTopMarking: ZXTT*GC8; PowerWise: N; CompType: Audio IC; Published: 1-Mar-2010; DatasheetVersion: Feb-2009; PackageVersion: revF, Apr-2008; PackageReference: MUA08A; Publisher: Altium Limited; PackageDescription: MINI SOIC, .118 x .118 x .034in, 8 Lead, .0256in Pitch; Supplier 1: Digi-Key; Supplier Part Number 1: LM4923MMTR-ND; Supplier 2: Digi-Key; Supplier Part Number 2: LM4923MMCT-ND; Supplier 3: Digi-Key; Supplier Part Number 3: LM4923MMDKR-ND; RoHS: Y; PinCount: 8; Code_JEDEC: MO-187-AA; ComponentLink1Description: LM4923 Datasheet; ComponentLink1URL: http://www.national.com/ds/LM/LM4923.pdf; ComponentLink2Description: LM4923 Web Page; ComponentLink2URL: http://www.national.com/pf/LM/LM4923.html; ComponentLink3Description: MUA08A Package Page; ComponentLink3URL: http://www.national.com/packaging/folders/mua08a.html
footprint MUA08A_N (TSOP, 8-Leads, Body 3x3mm, Pitch 0.65mm, IPC Medium Density)
footprint MUA08A_L (TSOP, 8-Leads, Body 3x3mm, Pitch 0.65mm, IPC High Density)
footprint MUA08A_M (TSOP, 8-Leads, Body 3x3mm, Pitch 0.65mm, IPC Low Density)
pins: 1 IN- (in), 2 IN+ (in), 3 VDD (power), 4 VO+ (out), 5 SD (in), 6 BYPASS, 7 GND (power), 8 VO- (out)

## LM4923MMX/NOPB
designator U?
1.1W Fully Differential Audio Power Amplifier With Shutdown Select, 8-pin Mini SOIC, Pb-Free; PartNumber: LM4923MMX/NOPB; Manufacturer: National Semiconductor; PackageTopMarking: ZXTT*GC8; PowerWise: N; CompType: Audio IC; Published: 1-Mar-2010; DatasheetVersion: Feb-2009; PackageVersion: revF, Apr-2008; PackageReference: MUA08A; Publisher: Altium Limited; PackageDescription: MINI SOIC, .118 x .118 x .034in, 8 Lead, .0256in Pitch; Supplier 1: Digi-Key; Supplier Part Number 1: LM4923MMX-ND; RoHS: Y; PinCount: 8; Code_JEDEC: MO-187-AA; ComponentLink1Description: LM4923 Datasheet; ComponentLink1URL: http://www.national.com/ds/LM/LM4923.pdf; ComponentLink2Description: LM4923 Web Page; ComponentLink2URL: http://www.national.com/pf/LM/LM4923.html; ComponentLink3Description: MUA08A Package Page; ComponentLink3URL: http://www.national.com/packaging/folders/mua08a.html
footprint MUA08A_N (TSOP, 8-Leads, Body 3x3mm, Pitch 0.65mm, IPC Medium Density)
footprint MUA08A_L (TSOP, 8-Leads, Body 3x3mm, Pitch 0.65mm, IPC High Density)
footprint MUA08A_M (TSOP, 8-Leads, Body 3x3mm, Pitch 0.65mm, IPC Low Density)
pins: 1 IN- (in), 2 IN+ (in), 3 VDD (power), 4 VO+ (out), 5 SD (in), 6 BYPASS, 7 GND (power), 8 VO- (out)

## LM4924MM
designator U?
2 Cell Battery, 40mW Per Channel Output Capacitor-Less (OCL) Stereo Headphone Audio Amplifier, 10-pin MSOP; PartNumber: LM4924MM; Manufacturer: National Semiconductor; PackageTopMarking: ZXTT*GB7; PowerWise: N; CompType: Audio IC; Published: 4-Dec-2008; DatasheetVersion: Jun-2009; PackageVersion: revB, Jul-2003; PackageReference: MUB10A; Publisher: Altium Limited; PackageDescription: Mini-SO, Molded, .118 x .118 x .034in Body, 10 Lead, .0197in Pitch; RoHS: N; PinCount: 10; Code_JEDEC: MO-187-BA; ComponentLink1Description: LM4924 Datasheet; ComponentLink1URL: http://www.national.com/ds/LM/LM4924.pdf; ComponentLink2Description: LM4924 Web Page; ComponentLink2URL: http://www.national.com/pf/LM/LM4924.html; ComponentLink3Description: MUB10A Package Page; ComponentLink3URL: http://www.national.com/packaging/folders/mub10a.html
footprint MUB10A_N (TSSOP, 10-Leads, Body 3x3mm, Pitch 0.5mm, IPC Medium Density)
footprint MUB10A_L (TSSOP, 10-Leads, Body 3x3mm, Pitch 0.5mm, IPC High Density)
footprint MUB10A_M (TSSOP, 10-Leads, Body 3x3mm, Pitch 0.5mm, IPC Low Density)
pins: 1 INA (in), 2 SD (in), 3 MUTE (in), 4 BYPASS, 5 INB (in), 6 GND (power), 7 VOB (out), 8 VOC (out), 9 VOA (out), 10 VDD (power)

## LM4924MMX
designator U?
2 Cell Battery, 40mW Per Channel Output Capacitor-Less (OCL) Stereo Headphone Audio Amplifier, 10-pin Mini SOIC; PartNumber: LM4924MMX; Manufacturer: National Semiconductor; PackageTopMarking: ZXTT*GB7; PowerWise: N; CompType: Audio IC; Published: 1-Mar-2010; DatasheetVersion: Jun-2009; PackageVersion: revB, Jul-2003; PackageReference: MUB10A; Publisher: Altium Limited; PackageDescription: Mini-SO, Molded, .118 x .118 x .034in Body, 10 Lead, .0197in Pitch; RoHS: N; PinCount: 10; Code_JEDEC: MO-187-BA; ComponentLink1Description: LM4924 Datasheet; ComponentLink1URL: http://www.national.com/ds/LM/LM4924.pdf; ComponentLink2Description: LM4924 Web Page; ComponentLink2URL: http://www.national.com/pf/LM/LM4924.html; ComponentLink3Description: MUB10A Package Page; ComponentLink3URL: http://www.national.com/packaging/folders/mub10a.html
footprint MUB10A_N (TSSOP, 10-Leads, Body 3x3mm, Pitch 0.5mm, IPC Medium Density)
footprint MUB10A_L (TSSOP, 10-Leads, Body 3x3mm, Pitch 0.5mm, IPC High Density)
footprint MUB10A_M (TSSOP, 10-Leads, Body 3x3mm, Pitch 0.5mm, IPC Low Density)
pins: 1 INA (in), 2 SD (in), 3 MUTE (in), 4 BYPASS, 5 INB (in), 6 GND (power), 7 VOB (out), 8 VOC (out), 9 VOA (out), 10 VDD (power)

## LM4924SD
designator U?
2 Cell Battery, 40mW Per Channel Output Capacitor-Less (OCL) Stereo Headphone Audio Amplifier, 11-pin LLP; PartNumber: LM4924SD; Manufacturer: National Semiconductor; PackageTopMarking: ZXYTT*L4924; PowerWise: N; CompType: Audio IC; Published: 4-Dec-2008; DatasheetVersion: Jun-2009; PackageVersion: revA, Oct-2003; PackageReference: SDA10A; Publisher: Altium Limited; PackageDescription: LLP, Plastic, Dual, 3 x 3 x 0.8mm Body, 10 Lead, 0.5mm Pitch, No Pullback; RoHS: N; PinCount: 10; ComponentLink1Description: LM4924 Datasheet; ComponentLink1URL: http://www.national.com/ds/LM/LM4924.pdf; ComponentLink2Description: LM4924 Web Page; ComponentLink2URL: http://www.national.com/pf/LM/LM4924.html; ComponentLink3Description: SDA10A Package Page; ComponentLink3URL: http://www.national.com/packaging/folders/sda10a.html
footprint SDA10A (SON, 10-Leads, Body 3x3 mm, Pitch 0.5mm, NSC Recommended)
pins: 1 INA (in), 2 SD (in), 3 MUTE (in), 4 BYPASS, 5 INB (in), 6 GND (power), 7 VOB (out), 8 VOC (out), 9 VOA (out), 10 VDD (power), 11 DAP (power)

## LM4924SDX
designator U?
2 Cell Battery, 40mW Per Channel Output Capacitor-Less (OCL) Stereo Headphone Audio Amplifier, 10-pin LLP; PartNumber: LM4924SDX; Manufacturer: National Semiconductor; PackageTopMarking: ZXYTT*L4924; PowerWise: N; CompType: Audio IC; Published: 1-Mar-2010; DatasheetVersion: Jun-2009; PackageVersion: revA, Oct-2003; PackageReference: SDA10A; Publisher: Altium Limited; PackageDescription: LLP, Plastic, Dual, 3 x 3 x 0.8mm Body, 10 Lead, 0.5mm Pitch, No Pullback; RoHS: N; PinCount: 10; ComponentLink1Description: LM4924 Datasheet; ComponentLink1URL: http://www.national.com/ds/LM/LM4924.pdf; ComponentLink2Description: LM4924 Web Page; ComponentLink2URL: http://www.national.com/pf/LM/LM4924.html; ComponentLink3Description: SDA10A Package Page; ComponentLink3URL: http://www.national.com/packaging/folders/sda10a.html
footprint SDA10A (SON, 10-Leads, Body 3x3 mm, Pitch 0.5mm, NSC Recommended)
pins: 1 INA (in), 2 SD (in), 3 MUTE (in), 4 BYPASS, 5 INB (in), 6 GND (power), 7 VOB (out), 8 VOC (out), 9 VOA (out), 10 VDD (power), 11 DAP (power)

## LM4925MM
designator U?
2 Cell, Single Ended Output, 40mW Stereo Headphone Audio Amplifier, 10-pin MSOP; PartNumber: LM4925MM; Manufacturer: National Semiconductor; PackageTopMarking: ZXTT*GB8; PowerWise: N; CompType: Audio IC; Published: 4-Dec-2008; DatasheetVersion: Feb-2005; PackageVersion: revB, Jul-2003; PackageReference: MUB10A; Publisher: Altium Limited; PackageDescription: Mini-SO, Molded, .118 x .118 x .034in Body, 10 Lead, .0197in Pitch; RoHS: N; PinCount: 10; Code_JEDEC: MO-187-BA; ComponentLink1Description: LM4925 Datasheet; ComponentLink1URL: http://www.national.com/ds/LM/LM4925.pdf; ComponentLink2Description: LM4925 Web Page; ComponentLink2URL: http://www.national.com/pf/LM/LM4925.html; ComponentLink3Description: MUB10A Package Page; ComponentLink3URL: http://www.national.com/packaging/folders/mub10a.html
footprint MUB10A_N (TSSOP, 10-Leads, Body 3x3mm, Pitch 0.5mm, IPC Medium Density)
footprint MUB10A_L (TSSOP, 10-Leads, Body 3x3mm, Pitch 0.5mm, IPC High Density)
footprint MUB10A_M (TSSOP, 10-Leads, Body 3x3mm, Pitch 0.5mm, IPC Low Density)
pins: 1 IN A (in), 2 SD (in), 3 MUTE (in), 4 BYPASS, 5 IN B (in), 6 GND (power), 7 VOB (out), 8 ~{SE}/BTL (in), 9 VOA (out), 10 VDD (power)

## LM4925MM/NOPB
designator U?
2 Cell, Single Ended Output, 40mW Stereo Headphone Audio Amplifier, 10-pin Mini SOIC, Pb-Free; PartNumber: LM4925MM/NOPB; Manufacturer: National Semiconductor; PackageTopMarking: ZXTT*GB8; PowerWise: N; CompType: Audio IC; Published: 1-Mar-2010; DatasheetVersion: Feb-2005; PackageVersion: revB, Jul-2003; PackageReference: MUB10A; Publisher: Altium Limited; PackageDescription: Mini-SO, Molded, .118 x .118 x .034in Body, 10 Lead, .0197in Pitch; Supplier 1: Digi-Key; Supplier Part Number 1: LM4925MMTR-ND; Supplier 2: Digi-Key; Supplier Part Number 2: LM4925MMCT-ND; Supplier 3: Digi-Key; Supplier Part Number 3: LM4925MMDKR-ND; RoHS: Y; PinCount: 10; Code_JEDEC: MO-187-BA; ComponentLink1Description: LM4925 Datasheet; ComponentLink1URL: http://www.national.com/ds/LM/LM4925.pdf; ComponentLink2Description: LM4925 Web Page; ComponentLink2URL: http://www.national.com/pf/LM/LM4925.html; ComponentLink3Description: MUB10A Package Page; ComponentLink3URL: http://www.national.com/packaging/folders/mub10a.html
footprint MUB10A_N (TSSOP, 10-Leads, Body 3x3mm, Pitch 0.5mm, IPC Medium Density)
footprint MUB10A_L (TSSOP, 10-Leads, Body 3x3mm, Pitch 0.5mm, IPC High Density)
footprint MUB10A_M (TSSOP, 10-Leads, Body 3x3mm, Pitch 0.5mm, IPC Low Density)
pins: 1 IN A (in), 2 SD (in), 3 MUTE (in), 4 BYPASS, 5 IN B (in), 6 GND (power), 7 VOB (out), 8 ~{SE}/BTL (in), 9 VOA (out), 10 VDD (power)

## LM4925MMX
designator U?
2 Cell, Single Ended Output, 40mW Stereo Headphone Audio Amplifier, 10-pin Mini SOIC; PartNumber: LM4925MMX; Manufacturer: National Semiconductor; PackageTopMarking: ZXTT*GB8; PowerWise: N; CompType: Audio IC; Published: 1-Mar-2010; DatasheetVersion: Feb-2005; PackageVersion: revB, Jul-2003; PackageReference: MUB10A; Publisher: Altium Limited; PackageDescription: Mini-SO, Molded, .118 x .118 x .034in Body, 10 Lead, .0197in Pitch; RoHS: N; PinCount: 10; Code_JEDEC: MO-187-BA; ComponentLink1Description: LM4925 Datasheet; ComponentLink1URL: http://www.national.com/ds/LM/LM4925.pdf; ComponentLink2Description: LM4925 Web Page; ComponentLink2URL: http://www.national.com/pf/LM/LM4925.html; ComponentLink3Description: MUB10A Package Page; ComponentLink3URL: http://www.national.com/packaging/folders/mub10a.html
footprint MUB10A_N (TSSOP, 10-Leads, Body 3x3mm, Pitch 0.5mm, IPC Medium Density)
footprint MUB10A_L (TSSOP, 10-Leads, Body 3x3mm, Pitch 0.5mm, IPC High Density)
footprint MUB10A_M (TSSOP, 10-Leads, Body 3x3mm, Pitch 0.5mm, IPC Low Density)
pins: 1 IN A (in), 2 SD (in), 3 MUTE (in), 4 BYPASS, 5 IN B (in), 6 GND (power), 7 VOB (out), 8 ~{SE}/BTL (in), 9 VOA (out), 10 VDD (power)

## LM4925SD
designator U?
2 Cell, Single Ended Output, 40mW Stereo Headphone Audio Amplifier, 11-pin LLP; PartNumber: LM4925SD; Manufacturer: National Semiconductor; PackageTopMarking: ZXYTT*L4925; PowerWise: N; CompType: Audio IC; Published: 4-Dec-2008; DatasheetVersion: Feb-2005; PackageVersion: revA, Oct-2003; PackageReference: SDA10A; Publisher: Altium Limited; PackageDescription: LLP, Plastic, Dual, 3 x 3 x 0.8mm Body, 10 Lead, 0.5mm Pitch, No Pullback; Supplier 1: Digi-Key; Supplier Part Number 1: LM4925SDCT-ND; RoHS: N; PinCount: 10; ComponentLink1Description: LM4925 Datasheet; ComponentLink1URL: http://www.national.com/ds/LM/LM4925.pdf; ComponentLink2Description: LM4925 Web Page; ComponentLink2URL: http://www.national.com/pf/LM/LM4925.html; ComponentLink3Description: SDA10A Package Page; ComponentLink3URL: http://www.national.com/packaging/folders/sda10a.html
footprint SDA10A (SON, 10-Leads, Body 3x3 mm, Pitch 0.5mm, NSC Recommended)
pins: 1 IN A (in), 2 SD (in), 3 MUTE (in), 4 BYPASS, 5 IN B (in), 6 GND (power), 7 VOB (out), 8 ~{SE}/BTL (in), 9 VOA (out), 10 VDD (power), 11 DAP (power)

## LM4925SD/NOPB
designator U?
2 Cell, Single Ended Output, 40mW Stereo Headphone Audio Amplifier, 10-pin LLP, Pb-Free; PartNumber: LM4925SD/NOPB; Manufacturer: National Semiconductor; PackageTopMarking: ZXYTT*L4925; PowerWise: N; CompType: Audio IC; Published: 1-Mar-2010; DatasheetVersion: Feb-2005; PackageVersion: revA, Oct-2003; PackageReference: SDA10A; Publisher: Altium Limited; PackageDescription: LLP, Plastic, Dual, 3 x 3 x 0.8mm Body, 10 Lead, 0.5mm Pitch, No Pullback; Supplier 1: Digi-Key; Supplier Part Number 1: LM4925SDTR-ND; RoHS: Y; PinCount: 10; ComponentLink1Description: LM4925 Datasheet; ComponentLink1URL: http://www.national.com/ds/LM/LM4925.pdf; ComponentLink2Description: LM4925 Web Page; ComponentLink2URL: http://www.national.com/pf/LM/LM4925.html; ComponentLink3Description: SDA10A Package Page; ComponentLink3URL: http://www.national.com/packaging/folders/sda10a.html
footprint SDA10A (SON, 10-Leads, Body 3x3 mm, Pitch 0.5mm, NSC Recommended)
pins: 1 IN A (in), 2 SD (in), 3 MUTE (in), 4 BYPASS, 5 IN B (in), 6 GND (power), 7 VOB (out), 8 ~{SE}/BTL (in), 9 VOA (out), 10 VDD (power), 11 DAP (power)

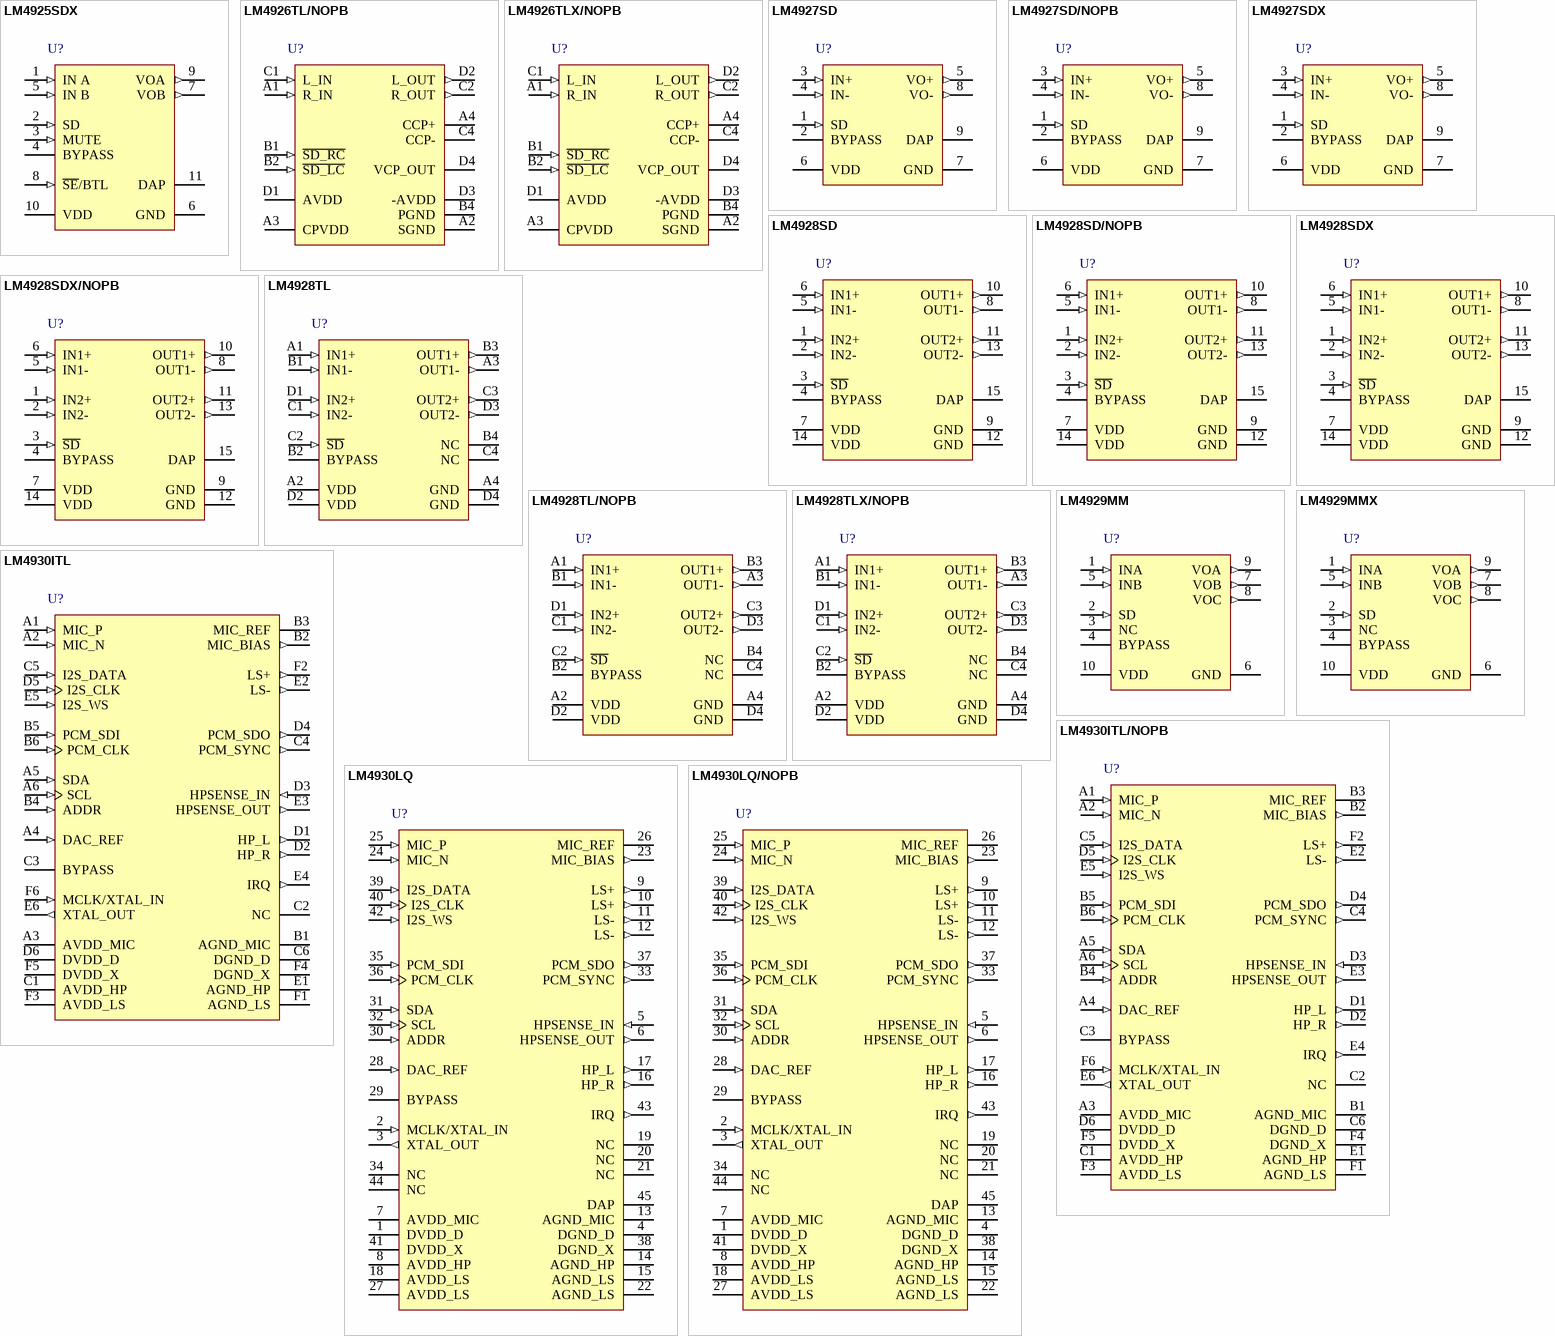
[diagram p12: symbols LM4925SDX to LM4930LQ/NOPB]

## LM4925SDX
designator U?
2 Cell, Single Ended Output, 40mW Stereo Headphone Audio Amplifier, 10-pin LLP; PartNumber: LM4925SDX; Manufacturer: National Semiconductor; PackageTopMarking: ZXYTT*L4925; PowerWise: N; CompType: Audio IC; Published: 1-Mar-2010; DatasheetVersion: Feb-2005; PackageVersion: revA, Oct-2003; PackageReference: SDA10A; Publisher: Altium Limited; PackageDescription: LLP, Plastic, Dual, 3 x 3 x 0.8mm Body, 10 Lead, 0.5mm Pitch, No Pullback; RoHS: N; PinCount: 10; ComponentLink1Description: LM4925 Datasheet; ComponentLink1URL: http://www.national.com/ds/LM/LM4925.pdf; ComponentLink2Description: LM4925 Web Page; ComponentLink2URL: http://www.national.com/pf/LM/LM4925.html; ComponentLink3Description: SDA10A Package Page; ComponentLink3URL: http://www.national.com/packaging/folders/sda10a.html
footprint SDA10A (SON, 10-Leads, Body 3x3 mm, Pitch 0.5mm, NSC Recommended)
pins: 1 IN A (in), 2 SD (in), 3 MUTE (in), 4 BYPASS, 5 IN B (in), 6 GND (power), 7 VOB (out), 8 ~{SE}/BTL (in), 9 VOA (out), 10 VDD (power), 11 DAP (power)

## LM4926TL/NOPB
designator U?
LM4926 Ground-Referenced, Ultra Low Noise, Fixed Gain, 80mW Stereo Headphone Amplifier, 14 pin MICRO SMD; PartNumber: LM4926TL/NOPB; Manufacturer: National Semiconductor; PackageTopMarking: XYTT*I GE8; PowerWise: N; CompType: Audio IC; Published: 16-Nov-2010; DatasheetVersion: Jun-2005; PackageVersion: revB, Sep-2004; PackageReference: TLE1411A; Publisher: Altium Limited; PackageDescription: Thin Micro SMD, Depopulated, 14 Bump (Large), 0.5mm Pitch; RoHS: Y; PinCount: 14; Code_JEDEC: MO-211-DF; ComponentLink1Description: LM4926 Datasheet; ComponentLink1URL: http://www.national.com/ds/LM/LM4926.pdf; ComponentLink2Description: LM4926 Web Page; ComponentLink2URL: http://www.national.com/pf/LM/LM4926.html; ComponentLink3Description: TLE1411A Package Page; ComponentLink3URL: http://www.national.com/packaging/folders/tle1411a.html
footprint TLE1411A (Micro SMD, 14-Leads, Body 1.97x1.97mm, Pitch 0.5mm, NSC Recommended)
pins: A1 R_IN (in), A2 SGND (power), A3 CPVDD (power), A4 CCP+, B1 ~{SD_RC} (in), B2 ~{SD_LC} (in), B4 PGND (power), C1 L_IN (in), C2 R_OUT (out), C4 CCP-, D1 AVDD (power), D2 L_OUT (out), D3 -AVDD (power), D4 VCP_OUT (power)

## LM4926TLX/NOPB
designator U?
LM4926 Ground-Referenced, Ultra Low Noise, Fixed Gain, 80mW Stereo Headphone Amplifier, 14 pin MICRO SMD; PartNumber: LM4926TLX/NOPB; Manufacturer: National Semiconductor; PackageTopMarking: XYTT*I GE8; PowerWise: N; CompType: Audio IC; Published: 16-Nov-2010; DatasheetVersion: Jun-2005; PackageVersion: revB, Sep-2004; PackageReference: TLE1411A; Publisher: Altium Limited; PackageDescription: Thin Micro SMD, Depopulated, 14 Bump (Large), 0.5mm Pitch; RoHS: Y; PinCount: 14; Code_JEDEC: MO-211-DF; ComponentLink1Description: LM4926 Datasheet; ComponentLink1URL: http://www.national.com/ds/LM/LM4926.pdf; ComponentLink2Description: LM4926 Web Page; ComponentLink2URL: http://www.national.com/pf/LM/LM4926.html; ComponentLink3Description: TLE1411A Package Page; ComponentLink3URL: http://www.national.com/packaging/folders/tle1411a.html
footprint TLE1411A (Micro SMD, 14-Leads, Body 1.97x1.97mm, Pitch 0.5mm, NSC Recommended)
pins: A1 R_IN (in), A2 SGND (power), A3 CPVDD (power), A4 CCP+, B1 ~{SD_RC} (in), B2 ~{SD_LC} (in), B4 PGND (power), C1 L_IN (in), C2 R_OUT (out), C4 CCP-, D1 AVDD (power), D2 L_OUT (out), D3 -AVDD (power), D4 VCP_OUT (power)

## LM4927SD
designator U?
2.5 Watt Fully Differential Audio Power Amplifier With Shutdown, 9-pin LLP; PartNumber: LM4927SD; Manufacturer: National Semiconductor; PackageTopMarking: ZXYTT*L4927; PowerWise: N; CompType: Audio IC; Published: 4-Dec-2008; DatasheetVersion: Apr-2006; PackageVersion: revA, Aug-2003; PackageReference: SDA08A; Publisher: Altium Limited; PackageDescription: LLP, Plastic, Dual, 3 x 3 x 0.8mm Body, 8 Lead, 0.5mm Pitch, No Pullback; RoHS: N; PinCount: 8; ComponentLink1Description: LM4927 Datasheet; ComponentLink1URL: http://www.national.com/ds/LM/LM4927.pdf; ComponentLink2Description: LM4927 Web Page; ComponentLink2URL: http://www.national.com/pf/LM/LM4927.html; ComponentLink3Description: SDA08A Package Page; ComponentLink3URL: http://www.national.com/packaging/folders/sda08a.html
footprint SDA08A (SON, 8-Leads, Body 3x3mm, Pitch 0.5mm, NSC Recommended)
pins: 1 SD (in), 2 BYPASS, 3 IN+ (in), 4 IN- (in), 5 VO+ (out), 6 VDD (power), 7 GND (power), 8 VO- (out), 9 DAP (power)

## LM4927SD/NOPB
designator U?
2.5 Watt Fully Differential Audio Power Amplifier With Shutdown, 8-pin LLP, Pb-Free; PartNumber: LM4927SD/NOPB; Manufacturer: National Semiconductor; PackageTopMarking: ZXYTT*L4927; PowerWise: N; CompType: Audio IC; Published: 1-Mar-2010; DatasheetVersion: Apr-2006; PackageVersion: revA, Aug-2003; PackageReference: SDA08A; Publisher: Altium Limited; PackageDescription: LLP, Plastic, Dual, 3 x 3 x 0.8mm Body, 8 Lead, 0.5mm Pitch, No Pullback; Supplier 1: Digi-Key; Supplier Part Number 1: LM4927SDTR-ND; Supplier 2: Digi-Key; Supplier Part Number 2: LM4927SDCT-ND; Supplier 3: Digi-Key; Supplier Part Number 3: LM4927SDDKR-ND; RoHS: Y; PinCount: 8; ComponentLink1Description: LM4927 Datasheet; ComponentLink1URL: http://www.national.com/ds/LM/LM4927.pdf; ComponentLink2Description: LM4927 Web Page; ComponentLink2URL: http://www.national.com/pf/LM/LM4927.html; ComponentLink3Description: SDA08A Package Page; ComponentLink3URL: http://www.national.com/packaging/folders/sda08a.html
footprint SDA08A (SON, 8-Leads, Body 3x3mm, Pitch 0.5mm, NSC Recommended)
pins: 1 SD (in), 2 BYPASS, 3 IN+ (in), 4 IN- (in), 5 VO+ (out), 6 VDD (power), 7 GND (power), 8 VO- (out), 9 DAP (power)

## LM4927SDX
designator U?
2.5 Watt Fully Differential Audio Power Amplifier With Shutdown, 8-pin LLP; PartNumber: LM4927SDX; Manufacturer: National Semiconductor; PackageTopMarking: ZXYTT*L4927; PowerWise: N; CompType: Audio IC; Published: 1-Mar-2010; DatasheetVersion: Apr-2006; PackageVersion: revA, Aug-2003; PackageReference: SDA08A; Publisher: Altium Limited; PackageDescription: LLP, Plastic, Dual, 3 x 3 x 0.8mm Body, 8 Lead, 0.5mm Pitch, No Pullback; RoHS: N; PinCount: 8; ComponentLink1Description: LM4927 Datasheet; ComponentLink1URL: http://www.national.com/ds/LM/LM4927.pdf; ComponentLink2Description: LM4927 Web Page; ComponentLink2URL: http://www.national.com/pf/LM/LM4927.html; ComponentLink3Description: SDA08A Package Page; ComponentLink3URL: http://www.national.com/packaging/folders/sda08a.html
footprint SDA08A (SON, 8-Leads, Body 3x3mm, Pitch 0.5mm, NSC Recommended)
pins: 1 SD (in), 2 BYPASS, 3 IN+ (in), 4 IN- (in), 5 VO+ (out), 6 VDD (power), 7 GND (power), 8 VO- (out), 9 DAP (power)